# EAGLE library part IS61C256AL-* (library memory-issi-asynsram)
32k x 8 high- speed CMOS static RAM 10ns and 12ns access time 5V power supply
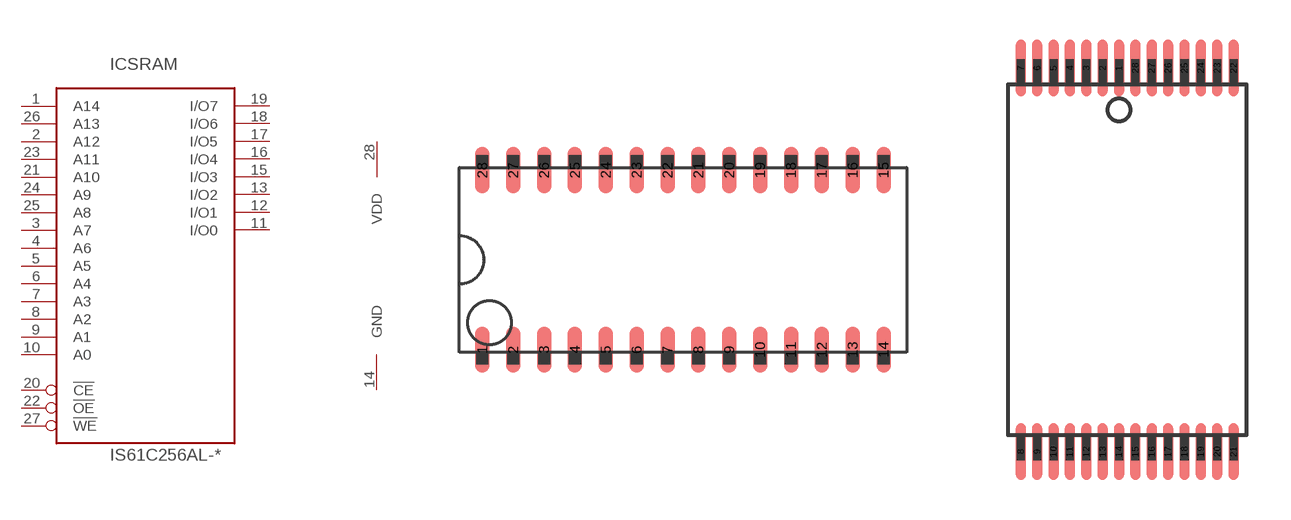
[diagram p1: symbol with the pads of SOJ28-300MIL; footprints SOJ28-300MIL, TSOP-I-28]

Designator prefix IC; gates SRAM=32KX8_TYP1 PWR=PWR_VDD1_GND1

## IS61C256AL-10J, IS61C256AL-12J  [SOJ28-300MIL]
1  SRAM:A14  in
2  SRAM:A12  in
3  SRAM:A7  in
4  SRAM:A6  in
5  SRAM:A5  in
6  SRAM:A4  in
7  SRAM:A3  in
8  SRAM:A2  in
9  SRAM:A1  in
10  SRAM:A0  in
11  SRAM:I/O0  hiz
12  SRAM:I/O1  hiz
13  SRAM:I/O2  hiz
14  PWR:GND  pwr
15  SRAM:I/O3  hiz
16  SRAM:I/O4  hiz
17  SRAM:I/O5  hiz
18  SRAM:I/O6  hiz
19  SRAM:I/O7  hiz
20  SRAM:!CE  in
21  SRAM:A10  in
22  SRAM:!OE  in
23  SRAM:A11  in
24  SRAM:A9  in
25  SRAM:A8  in
26  SRAM:A13  in
27  SRAM:!WE  in
28  PWR:VDD  pwr

## IS61C256AL-10T, IS61C256AL-12T  [TSOP-I-28]
Pads as for SOJ28-300MIL

## Footprint SOJ28-300MIL (pad centres in mm)
SOJ28-300mil 28-pin small-outline J-lead
smd 0.6 x 1.9: 1 -8.255,-3.7; 2 -6.985,-3.7; 3 -5.715,-3.7; 4 -4.445,-3.7; 5 -3.175,-3.7; 6 -1.905,-3.7; 7 -0.635,-3.7; 8 0.635,-3.7; 9 1.905,-3.7; 10 3.175,-3.7; 11 4.445,-3.7; 12 5.715,-3.7; 13 6.985,-3.7; 14 8.255,-3.7; 15 8.255,3.7; 16 6.985,3.7; 17 5.715,3.7; 18 4.445,3.7; 19 3.175,3.7; 20 1.905,3.7; 21 0.635,3.7; 22 -0.635,3.7; 23 -1.905,3.7; 24 -3.175,3.7; 25 -4.445,3.7; 26 -5.715,3.7; 27 -6.985,3.7; 28 -8.255,3.7

## Footprint TSOP-I-28 (pad centres in mm)
TSOP-I-28 28-pin thin small-outline package, Typ I
smd 0.33 x 1.9: 1 -0.275,6.45; 2 -0.825,6.45; 3 -1.375,6.45; 4 -1.925,6.45; 5 -2.475,6.45; 6 -3.025,6.45; 7 -3.575,6.45; 8 -3.575,-6.45; 9 -3.025,-6.45; 10 -2.475,-6.45; 11 -1.925,-6.45; 12 -1.375,-6.45; 13 -0.825,-6.45; 14 -0.275,-6.45; 15 0.275,-6.45; 16 0.825,-6.45; 17 1.375,-6.45; 18 1.925,-6.45; 19 2.475,-6.45; 20 3.025,-6.45; 21 3.575,-6.45; 22 3.575,6.45; 23 3.025,6.45; 24 2.475,6.45; 25 1.925,6.45; 26 1.375,6.45; 27 0.825,6.45; 28 0.275,6.45